# Altium schematic symbol library Capstone-2025.SchLib: 8 symbols
Pins are listed as number, name and electrical type; pins without a type are passive.

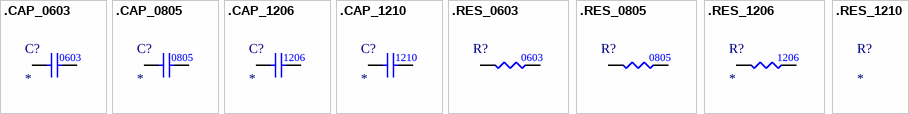
[diagram p0: symbols .CAP_0603 to .RES_1210]

## .CAP_0603
designator C?
GENERIC 0603 CAPACITOR
footprint .CAP_0603 (GENERIC 0603 CAPACITOR)
pins: 1, 2
text: 0603

## .CAP_0805
designator C?
GENERIC 0805 CAPACITOR
footprint .CAP_0805 (GENERIC 0805 CAPACITOR)
pins: 1, 2
text: 0805

## .CAP_1206
designator C?
GENERIC 1206 CAPACITOR
pins: 1, 2
text: 1206

## .CAP_1210
designator C?
GENERIC 1210 CAPACITOR
footprint .CAP_1210 (GENERIC 1210 CAPACITOR)
pins: 1, 2
text: 1210

## .RES_0603
designator R?
GENERIC 0603 RESISTOR
footprint .RES_0603 (GENERIC 0603 RESISTOR)
pins: 1, 2
text: 0603

## .RES_0805
designator R?
GENERIC 0805 RESISTOR
footprint .RES_0805 (GENERIC 0805 RESISTOR)
pins: 1, 2
text: 0805

## .RES_1206
designator R?
GENERIC 1206 RESISTOR
footprint .RES_1206 (GENERIC 1206 RESISTOR)
pins: 1, 2
text: 1206

## .RES_1210
designator R?
GENERIC 1210 RESISTOR